# Altium footprint library 5078R-100_180.PcbLib: 1 footprints
Each footprint in its own frame and in the unit in brackets; x right, y up, seen from the top. Pads: shape width x height; smd on the part's side, far side on the other; paste and mask are expansions set on the pad; w line width, h text height; cw(c..) or ccw(c..) is an arc to the next point about the centre after c.
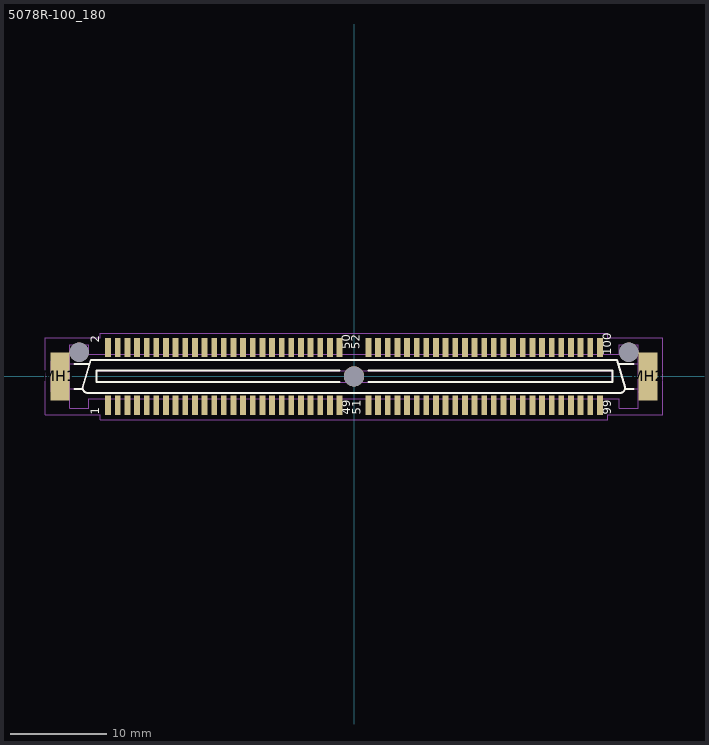
[diagram p0: the footprint, top view; thin cyan lines are the x and y axes]

## 5078R-100_180 [mm] "5078 Series Receptacle (19 5078 100 500 861+)"
height 5
pads (106):
  rect 0.6x2 smd: 1(-25.5,-3) 2(-25.5,3) 3(-24.5,-3) 4(-24.5,3) 5(-23.5,-3) 6(-23.5,3) 7(-22.5,-3) 8(-22.5,3) 9(-21.5,-3) 10(-21.5,3) 11(-20.5,-3) 12(-20.5,3) 13(-19.5,-3) 14(-19.5,3) 15(-18.5,-3) 16(-18.5,3) 17(-17.5,-3) 18(-17.5,3) 19(-16.5,-3) 20(-16.5,3) 21(-15.5,-3) 22(-15.5,3) 23(-14.5,-3) 24(-14.5,3) 25(-13.5,-3) 26(-13.5,3) 27(-12.5,-3) 28(-12.5,3) 29(-11.5,-3) 30(-11.5,3) 31(-10.5,-3) 32(-10.5,3) 33(-9.5,-3) 34(-9.5,3) 35(-8.5,-3) 36(-8.5,3) 37(-7.5,-3) 38(-7.5,3) 39(-6.5,-3) 40(-6.5,3) 41(-5.5,-3) 42(-5.5,3) 43(-4.5,-3) 44(-4.5,3) 45(-3.5,-3) 46(-3.5,3) 47(-2.5,-3) 48(-2.5,3) 49(-1.5,-3) 50(-1.5,3) 51(1.5,-3) 52(1.5,3) 53(2.5,-3) 54(2.5,3) 55(3.5,-3) 56(3.5,3) 57(4.5,-3) 58(4.5,3) 59(5.5,-3) 60(5.5,3) 61(6.5,-3) 62(6.5,3) 63(7.5,-3) 64(7.5,3) 65(8.5,-3) 66(8.5,3) 67(9.5,-3) 68(9.5,3) 69(10.5,-3) 70(10.5,3) 71(11.5,-3) 72(11.5,3) 73(12.5,-3) 74(12.5,3) 75(13.5,-3) 76(13.5,3) 77(14.5,-3) 78(14.5,3) 79(15.5,-3) 80(15.5,3) 81(16.5,-3) 82(16.5,3) 83(17.5,-3) 84(17.5,3) 85(18.5,-3) 86(18.5,3) 87(19.5,-3) 88(19.5,3) 89(20.5,-3) 90(20.5,3) 91(21.5,-3) 92(21.5,3) 93(22.5,-3) 94(22.5,3) 95(23.5,-3) 96(23.5,3) 97(24.5,-3) 98(24.5,3) 99(25.5,-3) 100(25.5,3)
  rect 2x5 smd: MH1(-30.5,0) MH2(30.5,0)
  round 2 hole 2 unplated: ""(-28.5,2.5) ""(28.5,2.5)
  round 2.1 hole 2.1 unplated: ""(0,0) ""(0,0)
Top Overlay:
  lines w0.2: -29,-1.3 -28.196,-1.3 ; -29,1.3 -27.5,1.3 ; -1.5,-0.6 -26.7,-0.6 -26.7,0.6 -1.5,0.6 ; 1.5,-0.6 26.8,-0.6 26.8,0.6 1.5,0.6 ; 27.5,1.3 29,1.3 ; 28.196,-1.3 29,-1.3 ; -28.136,-1.1 ccw(c-27.618,-1.182) -27.7,-1.7 27.673,-1.7 ccw(c27.591,-1.182) 28.109,-1.1 27.273,1.7 -27.3,1.7 -28.136,-1.1
  text "52" at 0.9,2.8 h1.5
  text "51" at 1,-4 h1.5
  text "100" at 27,2.2 h1.5
  text "99" at 27,-4 h1.5
  text "2" at -26.1,3.5 h1.5
  text "1" at -26.1,-4 h1.5
  text "49" at -0.1,-4 h1.5
  text "50" at -0.1,2.8 h1.5
Mechanical 13:
  lines w0.1: -29.5,-1.6 -31.4,-1.6 -31.4,1.6 -29.5,1.6 ; -29.5,-1.3 -28.196,-1.3 ; -29.5,1.3 -27.5,1.3 ; 27.419,1.3 29.5,1.3 ; 28.196,-1.3 29.5,-1.3 ; 29.5,-1.6 31.4,-1.6 31.4,1.6 29.5,1.6 ; -29.5,-3.3 -27.5,-3.3 -27.5,-2.3 27.5,-2.3 27.5,-3.3 29.5,-3.3 29.5,3.3 27.5,3.3 27.5,2.3 -27.5,2.3 -27.5,3.3 -29.5,3.3 -29.5,-3.3 ; -28.136,-1.1 ccw(c-27.618,-1.182) -27.7,-1.7 27.7,-1.7 ccw(c27.618,-1.182) 28.136,-1.1 27.3,1.7 -27.3,1.7 -28.136,-1.1 ; -26.7,-0.6 -0.3,-0.6 -0.3,0.6 -26.7,0.6 -26.7,-0.6 ; 0.3,-0.6 26.8,-0.6 26.8,0.6 0.3,0.6 0.3,-0.6
Mechanical 15:
  lines w0.05: -32,-4 -32,4 -26.3,4 -26.3,4.5 26.3,4.5 26.3,4 32,4 32,-4 26.3,-4 26.3,-4.5 -26.3,-4.5 -26.3,-4 -32,-4
3D body: height 1, standoff 0, extent -26.699,-0.599 -0.301,0.599
3D body: height 1, standoff 0, extent 0.301,-0.599 26.799,0.599
3D body: height 0.6, standoff 0, extent -31.399,-1.599 -29.501,1.599
3D body: height 0.6, standoff 0, extent 29.501,-1.599 31.399,1.599
3D body: height 5, standoff 0, extent -28.136,-1.7 28.109,1.7